# EAGLE library part TLV3011AI* (library ElevenDroids - ICs)
Nanopower, 1.8V, Comparator with Voltage Reference
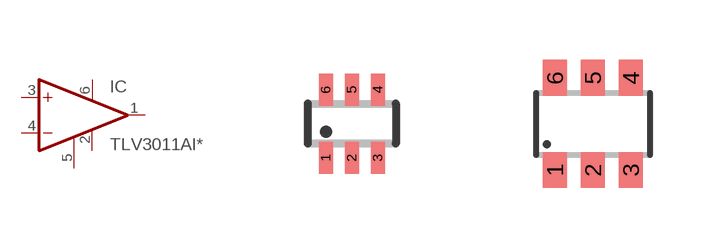
[diagram p14: symbol with the pads of SC70-6L; footprints SC70-6L, SOT23-6]

Designator prefix IC

## TLV3011AIDCK  [SC70-6L]
1  OUT  out
2  V-  pwr
3  +IN  in
4  -IN  in
5  REF  pas
6  V+  pwr

## TLV3011AIDBV  [SOT23-6]
Pads as for SC70-6L

## Footprint SC70-6L (pad centres in mm)
SC-70 Package
smd 0.35 x 0.8: 1 -0.65,-0.85; 2 0,-0.85; 3 0.65,-0.85; 4 0.65,0.85; 5 0,0.85; 6 -0.65,0.85

## Footprint SOT23-6 (pad centres in mm)
Small Outline Transistor 6 lead
smd 0.6 x 0.9: 1 -0.95,-1.15; 2 0,-1.15; 3 0.95,-1.15; 4 0.95,1.15; 5 0,1.15; 6 -0.95,1.15